# Altium schematic symbol library AutoLidar_VIP_Spring25.SCHLIB: 7 symbols
Pins are listed as number, name and electrical type; pins without a type are passive.

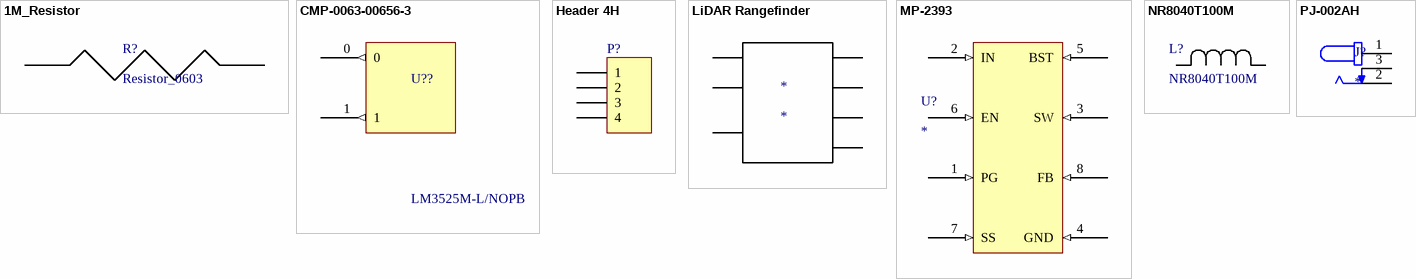
[diagram p0: symbols 1M_Resistor to PJ-002AH]

## 1M_Resistor
designator R?, comment Resistor_0603
footprint 1M_Resistor
pins: 1, 2

## CMP-0063-00656-3
designator U??, comment LM3525M-L/NOPB
Single Port USB Power Switch and Over-current Protection, 8-pin Narrow SOIC, Pb-Free; Manufacturer: Texas Instruments; CompType: MiscPower; PackageTopMarking: NSZXTT*3525*M-L; PowerWise: N; PackageDescription: SOIC Narrow, 4.9 x 3.9 x 1.45mm, 8 Lead, 1.27mm Pitch; RoHS: Y; Code_IPC: SOIC127P600-8; Code_JEDEC: MS-012-AA; ComponentLink1Description: Datasheet URL; PinCount: 8; PackageReference: D0008A; ComponentLink1URL: http://www.ti.com/general/docs/lit/getliterature.tsp?genericPartNumber=LM3525&fileType=pdf
footprint D0008A_L (SOIC, 8-Leads, Body 5x4mm, Pitch 1.27mm, IPC High Density)
footprint D0008A_M (SOIC, 8-Leads, Body 5x4mm, Pitch 1.27mm, IPC Low Density)
footprint D0008A_N (SOIC, 8-Leads, Body 5x4mm, Pitch 1.27mm, IPC Medium Density)
footprint Power Connector (Footprint not found)
pins: 0 (out), 1 (out)

## Header 4H
designator P?
Header, 4-Pin, Right Angle; LatestRevisionDate: 17-Jul-2002; LatestRevisionNote: Re-released for DXP Platform.; Publisher: Altium Limited
footprint HDR1X4H (Connector; Header; 4 Position; Right Angle)
signal-integrity model Connector
pins: 1, 2, 3, 4

## LiDAR Rangefinder
designator *

## MP-2393
designator U?
https://www.monolithicpower.com/en/documentview/productdocument/index/version/2/document_type/Datasheet/lang/en/sku/MP2393GTL-Z/document_id/4270/
footprint MP-2393 (https://www.monolithicpower.com/en/documentview/productdocument/index/version/2/document_type/Datasheet/lang/en/sku/MP2393GTL-Z/document_id/4270/)
pins: 1 PG (in), 2 IN (in), 3 SW (in), 4 GND (in), 5 BST (in), 6 EN (in), 7 SS (in), 8 FB (in)

## NR8040T100M
designator L?
No Description Available; Manufacturer_Name: TAIYO YUDEN; Copyright: Copyright (C) 2025 Ultra Librarian. All rights reserved.; Manufacturer_Part_Number: NR8040T100M
footprint IND_TAIYO_NR8040_TAY
pins: 1, 2

## PJ-002AH
designator J?
2.0 x 6.5 mm, 5.0 A, Horizontal, Through Hole, Dc Power Jack Connector; MF: Same Sky; MP: PJ-002AH; SnapEDA_Link: https://www.snapeda.com/parts/PJ-002AH/Same+Sky/view-part/?ref=snap; Package: None; Value: *; Check_prices: https://www.snapeda.com/parts/PJ-002AH/Same+Sky/view-part/?ref=eda
footprint CUI_PJ-002AH
pins: 1, 2, 3